# Altium schematic symbol library WR-TBL_Rising Cage Clamp.SchLib: 433 symbols (part 2 of 8)
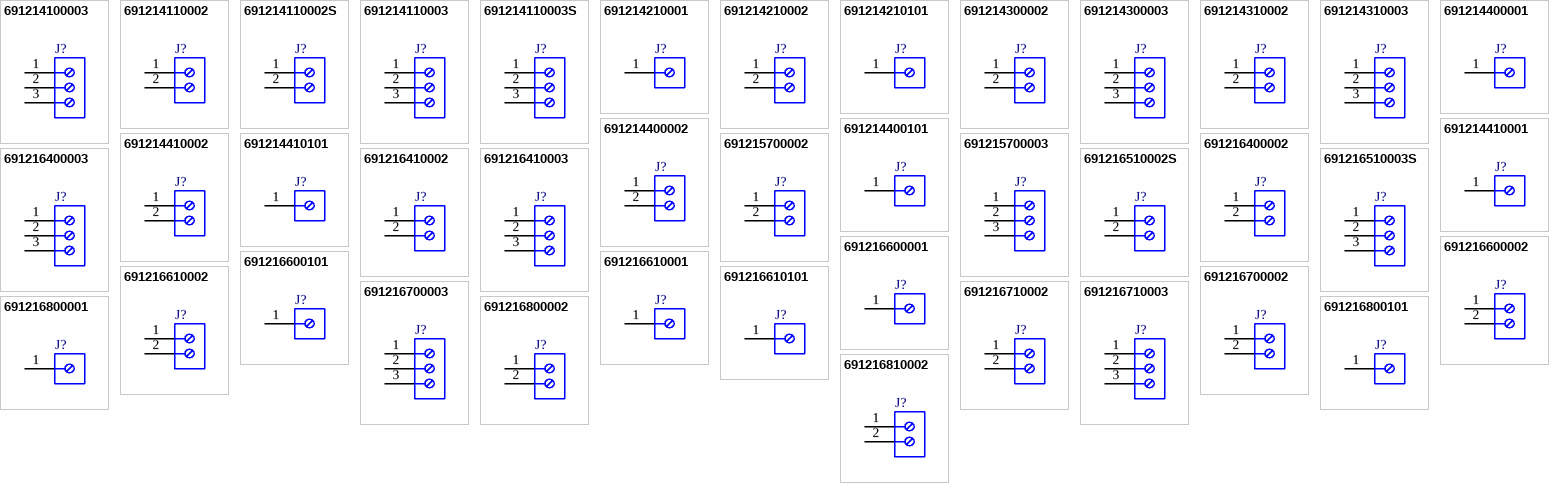
[diagram p11: symbols 691214100003 to 691216810002]

## 691216410002
designator J?  (value not drawn)
WR-TBL Series 2164 Horizontal Entry, THT, pitch 7.62mm, 02p; Manufacturer: Wurth Elektronik; Modularity: Yes; Rated Current: 14A; Wire Section: 12 to 30 (AWG) 3.31 to 0.05 (mm^2); Working Voltage: 300V (AC); Manufacturer Part Number: 691216410002; Product Series: WR-TBL; ComponentLink1Description: Website Link; ComponentLink1URL: https://www.we-online.com; ComponentLink2Description: Datasheet Link; ComponentLink2URL: https://www.we-online.com/components/products/datasheet/691216410002; Mount: Through Hole; Operating Temperature Min: -30degC; Operating Temperature Max: 120degC; Packaging: Box; Application: Rising Cage Clamp; Number of Pins: 2; Number of Rows: 1; Orientation: Horizontal; Lead Pitch: 7.62mm
footprint 691216410002
pins: 1, 2

## 691216410003
designator J?  (value not drawn)
WR-TBL Series 2164 Horizontal Entry, THT, pitch 7.62mm, 03p; Manufacturer: Wurth Elektronik; Modularity: Yes; Rated Current: 14A; Wire Section: 12 to 30 (AWG) 3.31 to 0.05 (mm^2); Working Voltage: 300V (AC); Manufacturer Part Number: 691216410003; Product Series: WR-TBL; ComponentLink1Description: Website Link; ComponentLink1URL: https://www.we-online.com; ComponentLink2Description: Datasheet Link; ComponentLink2URL: https://www.we-online.com/components/products/datasheet/691216410003; Mount: Through Hole; Operating Temperature Min: -30degC; Operating Temperature Max: 120degC; Packaging: Box; Application: Rising Cage Clamp; Number of Pins: 3; Number of Rows: 1; Orientation: Horizontal; Lead Pitch: 7.62mm
footprint 691216410003
pins: 1, 2, 3

## 691216510002S
designator J?  (value not drawn)
WR-TBL Series 2165S Horizontal Entry Modular, THT, pitch 5.08mm, 02p; Manufacturer: Wurth Elektronik; Modularity: Yes; Rated Current: 14A; Wire Section: 12 to 30 (AWG) 3.31 to 0.0509 (mm^2); Working Voltage: 300V (AC); Manufacturer Part Number: 691216510002S; Product Series: WR-TBL; ComponentLink1Description: Website Link; ComponentLink1URL: https://www.we-online.com; ComponentLink2Description: Datasheet Link; ComponentLink2URL: https://www.we-online.com/components/products/datasheet/691216510002S; Mount: Through Hole; Operating Temperature Min: -30degC; Operating Temperature Max: 120degC; Packaging: Box; Application: Rising Cage Clamp; Number of Pins: 2; Number of Rows: 1; Orientation: Horizontal; Lead Pitch: 5.08mm
footprint 691216510002S
pins: 1, 2

## 691216510003S
designator J?  (value not drawn)
WR-TBL Series 2165S Horizontal Entry Modular, THT, pitch 5.08mm, 03p; Manufacturer: Wurth Elektronik; Modularity: Yes; Rated Current: 14A; Wire Section: 12 to 30 (AWG) 3.31 to 0.0509 (mm^2); Working Voltage: 300V (AC); Manufacturer Part Number: 691216510003S; Product Series: WR-TBL; ComponentLink1Description: Website Link; ComponentLink1URL: https://www.we-online.com; ComponentLink2Description: Datasheet Link; ComponentLink2URL: https://www.we-online.com/components/products/datasheet/691216510003S; Mount: Through Hole; Operating Temperature Min: -30degC; Operating Temperature Max: 120degC; Packaging: Box; Application: Rising Cage Clamp; Number of Pins: 3; Number of Rows: 1; Orientation: Horizontal; Lead Pitch: 5.08mm
footprint 691216510003S
pins: 1, 2, 3

## 691216600001
designator J?  (value not drawn)
WR-TBL Series 2166 Vertical Entry, THT, pitch 10.16mm, 01p; Manufacturer: Wurth Elektronik; Modularity: Yes; Rated Current: 14A; Wire Section: 12 to 30 (AWG) 3.31 to 0.05 (mm^2); Working Voltage: 300V (AC); Manufacturer Part Number: 691216600001; Product Series: WR-TBL; ComponentLink1Description: Website Link; ComponentLink1URL: https://www.we-online.com; ComponentLink2Description: Datasheet Link; ComponentLink2URL: https://www.we-online.com/components/products/datasheet/691216600001; Mount: Through Hole; Operating Temperature Min: -30degC; Operating Temperature Max: 120degC; Packaging: Box; Application: Rising Cage Clamp; Number of Pins: 1; Number of Rows: 1; Orientation: Vertical; Lead Pitch: 10.16mm
footprint 691216600001
pins: 1

## 691216600002
designator J?  (value not drawn)
WR-TBL Series 2166 Vertical Entry, THT, pitch 10.16mm, 02p; Manufacturer: Wurth Elektronik; Modularity: Yes; Rated Current: 14A; Wire Section: 12 to 30 (AWG) 3.31 to 0.05 (mm^2); Working Voltage: 300V (AC); Manufacturer Part Number: 691216600002; Product Series: WR-TBL; ComponentLink1Description: Website Link; ComponentLink1URL: https://www.we-online.com; ComponentLink2Description: Datasheet Link; ComponentLink2URL: https://www.we-online.com/components/products/datasheet/691216600002; Mount: Through Hole; Operating Temperature Min: -30degC; Operating Temperature Max: 120degC; Packaging: Box; Application: Rising Cage Clamp; Number of Pins: 2; Number of Rows: 1; Orientation: Vertical; Lead Pitch: 10.16mm
footprint 691216600002
pins: 1, 2

## 691216600101
designator J?  (value not drawn)
WR-TBL Series 2166 Vertical Entry, THT, pitch 10.16mm, 01p; Manufacturer: Wurth Elektronik; Modularity: Yes; Rated Current: 14A; Wire Section: 12 to 30 (AWG) 3.31 to 0.05 (mm^2); Working Voltage: 300V (AC); Manufacturer Part Number: 691216600101; Product Series: WR-TBL; ComponentLink1Description: Website Link; ComponentLink1URL: https://www.we-online.com; ComponentLink2Description: Datasheet Link; ComponentLink2URL: https://www.we-online.com/components/products/datasheet/691216600101; Mount: Through Hole; Operating Temperature Min: -30degC; Operating Temperature Max: 120degC; Packaging: Box; Application: Rising Cage Clamp; Number of Pins: 1; Number of Rows: 1; Orientation: Vertical; Lead Pitch: 10.16mm
footprint 691216600101
pins: 1

## 691216610001
designator J?  (value not drawn)
WR-TBL Series 2166 Horizontal Entry, THT, pitch 10.16mm, 01p; Manufacturer: Wurth Elektronik; Modularity: Yes; Rated Current: 14A; Wire Section: 12 to 30 (AWG) 3.31 to 0.0509 (mm^2); Working Voltage: 300V (AC); Manufacturer Part Number: 691216610001; Product Series: WR-TBL; ComponentLink1Description: Website Link; ComponentLink1URL: https://www.we-online.com; ComponentLink2Description: Datasheet Link; ComponentLink2URL: https://www.we-online.com/components/products/datasheet/691216610001; Mount: Through Hole; Operating Temperature Min: -30degC; Operating Temperature Max: 120degC; Packaging: Box; Application: Rising Cage Clamp; Number of Pins: 1; Number of Rows: 1; Orientation: Horizontal; Lead Pitch: 10.16mm
footprint 691216610001
pins: 1

## 691216610002
designator J?  (value not drawn)
WR-TBL Series 2166 Horizontal Entry, THT, pitch 10.16mm, 02p; Manufacturer: Wurth Elektronik; Modularity: Yes; Rated Current: 14A; Wire Section: 12 to 30 (AWG) 3.31 to 0.0509 (mm^2); Working Voltage: 300V (AC); Manufacturer Part Number: 691216610002; Product Series: WR-TBL; ComponentLink1Description: Website Link; ComponentLink1URL: https://www.we-online.com; ComponentLink2Description: Datasheet Link; ComponentLink2URL: https://www.we-online.com/components/products/datasheet/691216610002; Mount: Through Hole; Operating Temperature Min: -30degC; Operating Temperature Max: 120degC; Packaging: Box; Application: Rising Cage Clamp; Number of Pins: 2; Number of Rows: 1; Orientation: Horizontal; Lead Pitch: 10.16mm
footprint 691216610002
pins: 1, 2

## 691216610101
designator J?  (value not drawn)
WR-TBL Series 2166 Horizontal Entry, THT, pitch 10.16mm, 01p; Manufacturer: Wurth Elektronik; Modularity: Yes; Rated Current: 14A; Wire Section: 12 to 30 (AWG) 3.31 to 0.0509 (mm^2); Working Voltage: 300V (AC); Manufacturer Part Number: 691216610101; Product Series: WR-TBL; ComponentLink1Description: Website Link; ComponentLink1URL: https://www.we-online.com; ComponentLink2Description: Datasheet Link; ComponentLink2URL: https://www.we-online.com/components/products/datasheet/691216610101; Mount: Through Hole; Operating Temperature Min: -30degC; Operating Temperature Max: 120degC; Packaging: Box; Application: Rising Cage Clamp; Number of Pins: 1; Number of Rows: 1; Orientation: Horizontal; Lead Pitch: 10.16mm
footprint 691216610101
pins: 1

## 691216700002
designator J?  (value not drawn)
WR-TBL Series 2167 Vertical Entry Modular, THT, pitch 5mm, 02p; Manufacturer: Wurth Elektronik; Modularity: Yes; Rated Current: 14A; Wire Section: 30 to 12 (AWG) 0.0509 to 3.31 (mm^2); Working Voltage: 300V (AC); Manufacturer Part Number: 691216700002; Product Series: WR-TBL; ComponentLink1Description: Website Link; ComponentLink1URL: https://www.we-online.com; ComponentLink2Description: Datasheet Link; ComponentLink2URL: https://www.we-online.com/components/products/datasheet/691216700002; Mount: Through Hole; Operating Temperature Min: -30degC; Operating Temperature Max: 120degC; Packaging: Box; Application: Rising Cage Clamp; Number of Pins: 2; Number of Rows: 1; Orientation: Vertical; Lead Pitch: 5mm
footprint 691216700002
pins: 1, 2

## 691216700003
designator J?  (value not drawn)
WR-TBL Series 2167 Vertical Entry Modular, THT, pitch 5mm, 03p; Manufacturer: Wurth Elektronik; Modularity: Yes; Rated Current: 14A; Wire Section: 30 to 12 (AWG) 0.0509 to 3.31 (mm^2); Working Voltage: 300V (AC); Manufacturer Part Number: 691216700003; Product Series: WR-TBL; ComponentLink1Description: Website Link; ComponentLink1URL: https://www.we-online.com; ComponentLink2Description: Datasheet Link; ComponentLink2URL: https://www.we-online.com/components/products/datasheet/691216700003; Mount: Through Hole; Operating Temperature Min: -30degC; Operating Temperature Max: 120degC; Packaging: Box; Application: Rising Cage Clamp; Number of Pins: 3; Number of Rows: 1; Orientation: Vertical; Lead Pitch: 5mm
footprint 691216700003
pins: 1, 2, 3

## 691216710002
designator J?  (value not drawn)
WR-TBL Series 2167 Horizontal Entry Modular, THT, pitch 5mm, 02p; Manufacturer: Wurth Elektronik; Modularity: Yes; Rated Current: 14A; Wire Section: 30 to 12 (AWG) 0.05 to 3.31 (mm^2); Working Voltage: 300V (AC); Manufacturer Part Number: 691216710002; Product Series: WR-TBL; ComponentLink1Description: Website Link; ComponentLink1URL: https://www.we-online.com; ComponentLink2Description: Datasheet Link; ComponentLink2URL: https://www.we-online.com/components/products/datasheet/691216710002; Mount: Through Hole; Operating Temperature Min: -30degC; Operating Temperature Max: 120degC; Packaging: Box; Application: Rising Cage Clamp; Number of Pins: 2; Number of Rows: 1; Orientation: Horizontal; Lead Pitch: 5mm
footprint 691216710002
pins: 1, 2

## 691216710003
designator J?  (value not drawn)
WR-TBL Series 2167 Horizontal Entry Modular, THT, pitch 5mm, 03p; Manufacturer: Wurth Elektronik; Modularity: Yes; Rated Current: 14A; Wire Section: 30 to 12 (AWG) 0.05 to 3.31 (mm^2); Working Voltage: 300V (AC); Manufacturer Part Number: 691216710003; Product Series: WR-TBL; ComponentLink1Description: Website Link; ComponentLink1URL: https://www.we-online.com; ComponentLink2Description: Datasheet Link; ComponentLink2URL: https://www.we-online.com/components/products/datasheet/691216710003; Mount: Through Hole; Operating Temperature Min: -30degC; Operating Temperature Max: 120degC; Packaging: Box; Application: Rising Cage Clamp; Number of Pins: 3; Number of Rows: 1; Orientation: Horizontal; Lead Pitch: 5mm
footprint 691216710003
pins: 1, 2, 3

## 691216800001
designator J?  (value not drawn)
WR-TBL Series 2168 Vertical Entry, THT, pitch 10mm, 01p; Manufacturer: Wurth Elektronik; Modularity: Yes; Rated Current: 14A; Wire Section: 12 to 30 (AWG) 3.31 to 0.0509 (mm^2); Working Voltage: 300V (AC); Manufacturer Part Number: 691216800001; Product Series: WR-TBL; ComponentLink1Description: Website Link; ComponentLink1URL: https://www.we-online.com; ComponentLink2Description: Datasheet Link; ComponentLink2URL: https://www.we-online.com/components/products/datasheet/691216800001; Mount: Through Hole; Operating Temperature Min: -30degC; Operating Temperature Max: 120degC; Packaging: Box; Application: Rising Cage Clamp; Number of Pins: 1; Number of Rows: 1; Orientation: Vertical; Lead Pitch: 10mm
footprint 691216800001
pins: 1

## 691216800002
designator J?  (value not drawn)
WR-TBL Series 2168 Vertical Entry, THT, pitch 10mm, 02p; Manufacturer: Wurth Elektronik; Modularity: Yes; Rated Current: 14A; Wire Section: 12 to 30 (AWG) 3.31 to 0.0509 (mm^2); Working Voltage: 300V (AC); Manufacturer Part Number: 691216800002; Product Series: WR-TBL; ComponentLink1Description: Website Link; ComponentLink1URL: https://www.we-online.com; ComponentLink2Description: Datasheet Link; ComponentLink2URL: https://www.we-online.com/components/products/datasheet/691216800002; Mount: Through Hole; Operating Temperature Min: -30degC; Operating Temperature Max: 120degC; Packaging: Box; Application: Rising Cage Clamp; Number of Pins: 2; Number of Rows: 1; Orientation: Vertical; Lead Pitch: 10mm
footprint 691216800002
pins: 1, 2

## 691216800101
designator J?  (value not drawn)
WR-TBL Series 2168 Vertical Entry, THT, pitch 10mm, 01p; Manufacturer: Wurth Elektronik; Modularity: Yes; Rated Current: 14A; Wire Section: 12 to 30 (AWG) 3.31 to 0.0509 (mm^2); Working Voltage: 300V (AC); Manufacturer Part Number: 691216800101; Product Series: WR-TBL; ComponentLink1Description: Website Link; ComponentLink1URL: https://www.we-online.com; ComponentLink2Description: Datasheet Link; ComponentLink2URL: https://www.we-online.com/components/products/datasheet/691216800101; Mount: Through Hole; Operating Temperature Min: -30degC; Operating Temperature Max: 120degC; Packaging: Box; Application: Rising Cage Clamp; Number of Pins: 1; Number of Rows: 1; Orientation: Vertical; Lead Pitch: 10mm
footprint 691216800101
pins: 1

## 691216810002
designator J?  (value not drawn)
WR-TBL Series 2168 Horizontal Entry Modular, THT, pitch 10mm, 02p; Manufacturer: Wurth Elektronik; Modularity: Yes; Rated Current: 14A; Wire Section: 12 to 30 (AWG) 3.31 to 0.0509 (mm^2); Working Voltage: 300V (AC); Manufacturer Part Number: 691216810002; Product Series: WR-TBL; ComponentLink1Description: Website Link; ComponentLink1URL: https://www.we-online.com; ComponentLink2Description: Datasheet Link; ComponentLink2URL: https://www.we-online.com/components/products/datasheet/691216810002; Mount: Through Hole; Operating Temperature Min: -30degC; Operating Temperature Max: 120degC; Packaging: Box; Application: Rising Cage Clamp; Number of Pins: 2; Number of Rows: 1; Orientation: Horizontal; Lead Pitch: 10mm
footprint 691216810002
pins: 1, 2

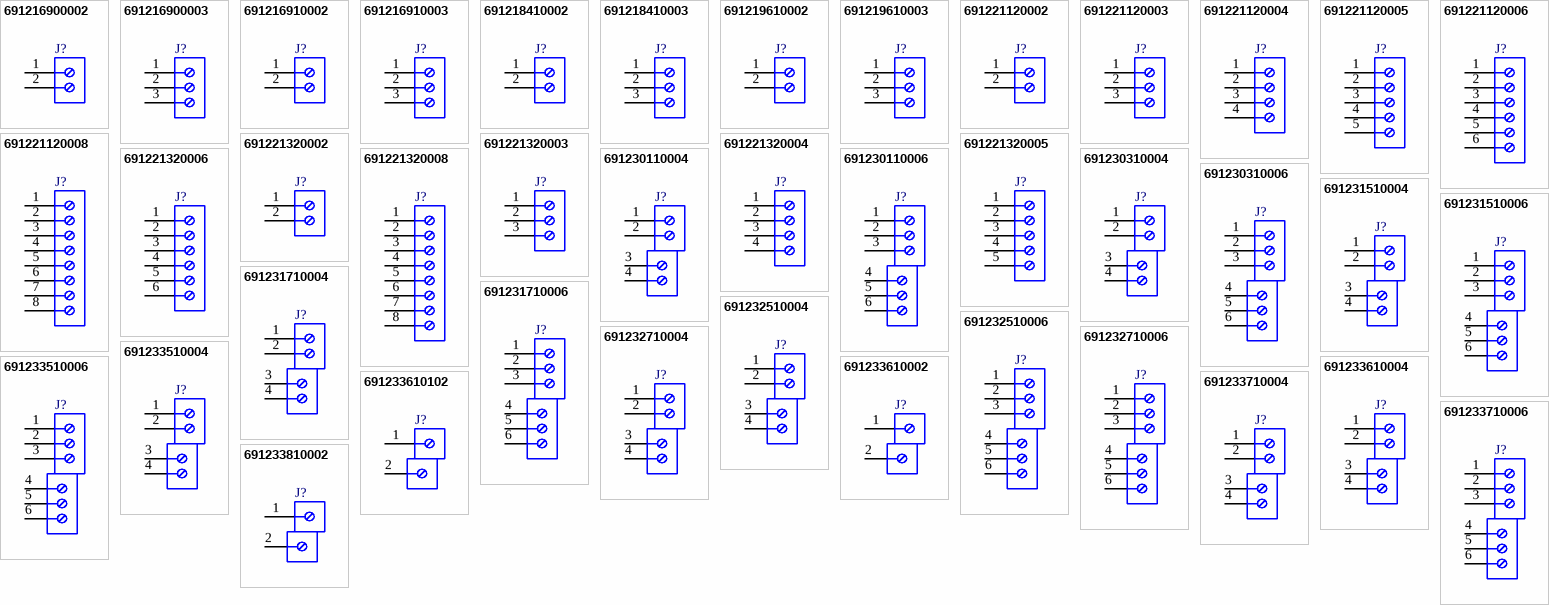
[diagram p2: symbols 691216900002 to 691233810002]

## 691216900002
designator J?  (value not drawn)
WR-TBL Series 2169 Vertical Entry, THT, pitch 7.5mm, 02p; Manufacturer: Wurth Elektronik; Modularity: Yes; Rated Current: 14A; Working Voltage: 300V (AC); Manufacturer Part Number: 691216900002; Product Series: WR-TBL; ComponentLink1Description: Website Link; ComponentLink1URL: https://www.we-online.com; ComponentLink2Description: Datasheet Link; ComponentLink2URL: https://www.we-online.com/components/products/datasheet/691216900002; Mount: Through Hole; Operating Temperature Min: -30degC; Operating Temperature Max: 120degC; Packaging: Box; Application: Rising Cage Clamp; Number of Pins: 2; Number of Rows: 1; Orientation: Vertical; Lead Pitch: 7.5mm
footprint 691216900002
pins: 1, 2

## 691216900003
designator J?  (value not drawn)
WR-TBL Series 2169 Vertical Entry, THT, pitch 7.5mm, 03p; Manufacturer: Wurth Elektronik; Modularity: Yes; Rated Current: 14A; Working Voltage: 300V (AC); Manufacturer Part Number: 691216900003; Product Series: WR-TBL; ComponentLink1Description: Website Link; ComponentLink1URL: https://www.we-online.com; ComponentLink2Description: Datasheet Link; ComponentLink2URL: https://www.we-online.com/components/products/datasheet/691216900003; Mount: Through Hole; Operating Temperature Min: -30degC; Operating Temperature Max: 120degC; Packaging: Box; Application: Rising Cage Clamp; Number of Pins: 3; Number of Rows: 1; Orientation: Vertical; Lead Pitch: 7.5mm
footprint 691216900003
pins: 1, 2, 3

## 691216910002
designator J?  (value not drawn)
WR-TBL Series 2169 Horizontal Entry Modular, THT, pitch 7.5mm, 02p; Manufacturer: Wurth Elektronik; Modularity: Yes; Rated Current: 14A; Wire Section: 12 to 30 (AWG) 3.31 to 0.0509 (mm^2); Working Voltage: 300V (AC); Manufacturer Part Number: 691216910002; Product Series: WR-TBL; ComponentLink1Description: Website Link; ComponentLink1URL: https://www.we-online.com; ComponentLink2Description: Datasheet Link; ComponentLink2URL: https://www.we-online.com/components/products/datasheet/691216910002; Mount: Through Hole; Operating Temperature Min: -30degC; Operating Temperature Max: 120degC; Packaging: Box; Application: Rising Cage Clamp; Number of Pins: 2; Number of Rows: 1; Orientation: Horizontal; Lead Pitch: 7.5mm
footprint 691216910002
pins: 1, 2

## 691216910003
designator J?  (value not drawn)
WR-TBL Series 2169 Horizontal Entry Modular, THT, pitch 7.5mm, 03p; Manufacturer: Wurth Elektronik; Modularity: Yes; Rated Current: 14A; Wire Section: 12 to 30 (AWG) 3.31 to 0.0509 (mm^2); Working Voltage: 300V (AC); Manufacturer Part Number: 691216910003; Product Series: WR-TBL; ComponentLink1Description: Website Link; ComponentLink1URL: https://www.we-online.com; ComponentLink2Description: Datasheet Link; ComponentLink2URL: https://www.we-online.com/components/products/datasheet/691216910003; Mount: Through Hole; Operating Temperature Min: -30degC; Operating Temperature Max: 120degC; Packaging: Box; Application: Rising Cage Clamp; Number of Pins: 3; Number of Rows: 1; Orientation: Horizontal; Lead Pitch: 7.5mm
footprint 691216910003
pins: 1, 2, 3

## 691218410002
designator J?  (value not drawn)
WR-TBL Series 2184 Horizontal Entry Modular, THT, pitch 7.62mm, 02p; Manufacturer: Wurth Elektronik; Modularity: Yes; Rated Current: 30A; Wire Section: 24 to 10 (AWG) 0.2 to 4 (mm^2); Working Voltage: 300V (AC); Manufacturer Part Number: 691218410002; Product Series: WR-TBL; ComponentLink1Description: Website Link; ComponentLink1URL: https://www.we-online.com; ComponentLink2Description: Datasheet Link; ComponentLink2URL: https://www.we-online.com/components/products/datasheet/691218410002; Mount: Through Hole; Operating Temperature Min: -40degC; Operating Temperature Max: 105degC; Packaging: Box; Application: Rising Cage Clamp; Number of Pins: 2; Number of Rows: 1; Orientation: Horizontal; Lead Pitch: 7.62mm
footprint 691218410002
pins: 1, 2

## 691218410003
designator J?  (value not drawn)
WR-TBL Series 2184 Horizontal Entry Modular, THT, pitch 7.62mm, 03p; Manufacturer: Wurth Elektronik; Modularity: Yes; Rated Current: 30A; Wire Section: 24 to 10 (AWG) 0.2 to 4 (mm^2); Working Voltage: 300V (AC); Manufacturer Part Number: 691218410003; Product Series: WR-TBL; ComponentLink1Description: Website Link; ComponentLink1URL: https://www.we-online.com; ComponentLink2Description: Datasheet Link; ComponentLink2URL: https://www.we-online.com/components/products/datasheet/691218410003; Mount: Through Hole; Operating Temperature Min: -40degC; Operating Temperature Max: 105degC; Packaging: Box; Application: Rising Cage Clamp; Number of Pins: 3; Number of Rows: 1; Orientation: Horizontal; Lead Pitch: 7.62mm
footprint 691218410003
pins: 1, 2, 3

## 691219610002
designator J?  (value not drawn)
WR-TBL Series 2196 Horizontal Entry Modular, THT, pitch 10.16mm, 02p; Manufacturer: Wurth Elektronik; Modularity: Yes; Rated Current: 57A; Wire Section: 8 to 22 (AWG) 8.37 to 0.326 (mm^2); Working Voltage: 300V (AC); Manufacturer Part Number: 691219610002; Product Series: WR-TBL; ComponentLink1Description: Website Link; ComponentLink1URL: https://www.we-online.com; ComponentLink2Description: Datasheet Link; ComponentLink2URL: https://www.we-online.com/components/products/datasheet/691219610002; Mount: Through Hole; Operating Temperature Min: -40degC; Operating Temperature Max: 105degC; Packaging: Box; Application: Rising Cage Clamp; Number of Pins: 2; Number of Rows: 1; Orientation: Horizontal; Lead Pitch: 10.16mm
footprint 691219610002
pins: 1, 2

## 691219610003
designator J?  (value not drawn)
WR-TBL Series 2196 Horizontal Entry Modular, THT, pitch 10.16mm, 03p; Manufacturer: Wurth Elektronik; Modularity: Yes; Rated Current: 57A; Wire Section: 8 to 22 (AWG) 8.37 to 0.326 (mm^2); Working Voltage: 300V (AC); Manufacturer Part Number: 691219610003; Product Series: WR-TBL; ComponentLink1Description: Website Link; ComponentLink1URL: https://www.we-online.com; ComponentLink2Description: Datasheet Link; ComponentLink2URL: https://www.we-online.com/components/products/datasheet/691219610003; Mount: Through Hole; Operating Temperature Min: -40degC; Operating Temperature Max: 105degC; Packaging: Box; Application: Rising Cage Clamp; Number of Pins: 3; Number of Rows: 1; Orientation: Horizontal; Lead Pitch: 10.16mm
footprint 691219610003
pins: 1, 2, 3

## 691221120002
designator J?  (value not drawn)
WR-TBL Series 2211 55° Entry Modular, THT, pitch 3.5mm, 02p; Manufacturer: Wurth Elektronik; Modularity: Yes; Rated Current: 10A; Wire Section: 24 to 16 (AWG) 0.2 to 1 (mm^2); Working Voltage: 300V (AC); Manufacturer Part Number: 691221120002; Product Series: WR-TBL; ComponentLink1Description: Website Link; ComponentLink1URL: https://www.we-online.com; ComponentLink2Description: Datasheet Link; ComponentLink2URL: https://www.we-online.com/components/products/datasheet/691221120002; Mount: Through Hole; Operating Temperature Min: -40degC; Operating Temperature Max: 105degC; Packaging: Box; Application: Rising Cage Clamp; Number of Pins: 2; Number of Rows: 1; Orientation: 55deg; Lead Pitch: 3.5mm
footprint 691221120002
pins: 1, 2

## 691221120003
designator J?  (value not drawn)
WR-TBL Series 2211 55° Entry Modular, THT, pitch 3.5mm, 03p; Manufacturer: Wurth Elektronik; Modularity: Yes; Rated Current: 10A; Wire Section: 24 to 16 (AWG) 0.2 to 1 (mm^2); Working Voltage: 300V (AC); Manufacturer Part Number: 691221120003; Product Series: WR-TBL; ComponentLink1Description: Website Link; ComponentLink1URL: https://www.we-online.com; ComponentLink2Description: Datasheet Link; ComponentLink2URL: https://www.we-online.com/components/products/datasheet/691221120003; Mount: Through Hole; Operating Temperature Min: -40degC; Operating Temperature Max: 105degC; Packaging: Box; Application: Rising Cage Clamp; Number of Pins: 3; Number of Rows: 1; Orientation: 55deg; Lead Pitch: 3.5mm
footprint 691221120003
pins: 1, 2, 3

## 691221120004
designator J?  (value not drawn)
WR-TBL Series 2211 55° Entry Modular, THT, pitch 3.5mm, 04p; Manufacturer: Wurth Elektronik; Modularity: Yes; Rated Current: 10A; Wire Section: 24 to 16 (AWG) 0.2 to 1 (mm^2); Working Voltage: 300V (AC); Manufacturer Part Number: 691221120004; Product Series: WR-TBL; ComponentLink1Description: Website Link; ComponentLink1URL: https://www.we-online.com; ComponentLink2Description: Datasheet Link; ComponentLink2URL: https://www.we-online.com/components/products/datasheet/691221120004; Mount: Through Hole; Operating Temperature Min: -40degC; Operating Temperature Max: 105degC; Packaging: Box; Application: Rising Cage Clamp; Number of Pins: 4; Number of Rows: 1; Orientation: 55deg; Lead Pitch: 3.5mm
footprint 691221120004
pins: 1, 2, 3, 4

## 691221120005
designator J?  (value not drawn)
WR-TBL Series 2211 55° Entry Modular, THT, pitch 3.5mm, 05p; Manufacturer: Wurth Elektronik; Modularity: Yes; Rated Current: 10A; Wire Section: 24 to 16 (AWG) 0.2 to 1 (mm^2); Working Voltage: 300V (AC); Manufacturer Part Number: 691221120005; Product Series: WR-TBL; ComponentLink1Description: Website Link; ComponentLink1URL: https://www.we-online.com; ComponentLink2Description: Datasheet Link; ComponentLink2URL: https://www.we-online.com/components/products/datasheet/691221120005; Mount: Through Hole; Operating Temperature Min: -40degC; Operating Temperature Max: 105degC; Packaging: Box; Application: Rising Cage Clamp; Number of Pins: 5; Number of Rows: 1; Orientation: 55deg; Lead Pitch: 3.5mm
footprint 691221120005
pins: 1, 2, 3, 4, 5

## 691221120006
designator J?  (value not drawn)
WR-TBL Series 2211 55° Entry Modular, THT, pitch 3.5mm, 06p; Manufacturer: Wurth Elektronik; Modularity: Yes; Rated Current: 10A; Wire Section: 24 to 16 (AWG) 0.2 to 1 (mm^2); Working Voltage: 300V (AC); Manufacturer Part Number: 691221120006; Product Series: WR-TBL; ComponentLink1Description: Website Link; ComponentLink1URL: https://www.we-online.com; ComponentLink2Description: Datasheet Link; ComponentLink2URL: https://www.we-online.com/components/products/datasheet/691221120006; Mount: Through Hole; Operating Temperature Min: -40degC; Operating Temperature Max: 105degC; Packaging: Box; Application: Rising Cage Clamp; Number of Pins: 6; Number of Rows: 1; Orientation: 55deg; Lead Pitch: 3.5mm
footprint 691221120006
pins: 1, 2, 3, 4, 5, 6

## 691221120008
designator J?  (value not drawn)
WR-TBL Series 2211 55° Entry Modular, THT, pitch 3.5mm, 08p; Manufacturer: Wurth Elektronik; Modularity: Yes; Rated Current: 10A; Wire Section: 24 to 16 (AWG) 0.2 to 1 (mm^2); Working Voltage: 300V (AC); Manufacturer Part Number: 691221120008; Product Series: WR-TBL; ComponentLink1Description: Website Link; ComponentLink1URL: https://www.we-online.com; ComponentLink2Description: Datasheet Link; ComponentLink2URL: https://www.we-online.com/components/products/datasheet/691221120008; Mount: Through Hole; Operating Temperature Min: -40degC; Operating Temperature Max: 105degC; Packaging: Box; Application: Rising Cage Clamp; Number of Pins: 8; Number of Rows: 1; Orientation: 55deg; Lead Pitch: 3.5mm
footprint 691221120008
pins: 1, 2, 3, 4, 5, 6, 7, 8

## 691221320002
designator J?  (value not drawn)
WR-TBL Series 2213 55° Entry Modular, THT, pitch 3.81mm, 02p; Manufacturer: Wurth Elektronik; Modularity: Yes; Rated Current: 10A; Wire Section: 28 to 16 (AWG) 0.081 to 1.31 (mm^2); Working Voltage: 300V (AC); Manufacturer Part Number: 691221320002; Product Series: WR-TBL; ComponentLink1Description: Website Link; ComponentLink1URL: https://www.we-online.com; ComponentLink2Description: Datasheet Link; ComponentLink2URL: https://www.we-online.com/components/products/datasheet/691221320002; Mount: Through Hole; Operating Temperature Min: -40degC; Operating Temperature Max: 105degC; Packaging: Box; Application: Rising Cage Clamp; Number of Pins: 2; Number of Rows: 1; Orientation: 55deg; Lead Pitch: 3.81mm
footprint 691221320002
pins: 1, 2

## 691221320003
designator J?  (value not drawn)
WR-TBL Series 2213 55° Entry Modular, THT, pitch 3.81mm, 03p; Manufacturer: Wurth Elektronik; Modularity: Yes; Rated Current: 10A; Wire Section: 28 to 16 (AWG) 0.081 to 1.31 (mm^2); Working Voltage: 300V (AC); Manufacturer Part Number: 691221320003; Product Series: WR-TBL; ComponentLink1Description: Website Link; ComponentLink1URL: https://www.we-online.com; ComponentLink2Description: Datasheet Link; ComponentLink2URL: https://www.we-online.com/components/products/datasheet/691221320003; Mount: Through Hole; Operating Temperature Min: -40degC; Operating Temperature Max: 105degC; Packaging: Box; Application: Rising Cage Clamp; Number of Pins: 3; Number of Rows: 1; Orientation: 55deg; Lead Pitch: 3.81mm
footprint 691221320003
pins: 1, 2, 3

## 691221320004
designator J?  (value not drawn)
WR-TBL Series 2213 55° Entry Modular, THT, pitch 3.81mm, 04p; Manufacturer: Wurth Elektronik; Modularity: Yes; Rated Current: 10A; Wire Section: 28 to 16 (AWG) 0.081 to 1.31 (mm^2); Working Voltage: 300V (AC); Manufacturer Part Number: 691221320004; Product Series: WR-TBL; ComponentLink1Description: Website Link; ComponentLink1URL: https://www.we-online.com; ComponentLink2Description: Datasheet Link; ComponentLink2URL: https://www.we-online.com/components/products/datasheet/691221320004; Mount: Through Hole; Operating Temperature Min: -40degC; Operating Temperature Max: 105degC; Packaging: Box; Application: Rising Cage Clamp; Number of Pins: 4; Number of Rows: 1; Orientation: 55deg; Lead Pitch: 3.81mm
footprint 691221320004
pins: 1, 2, 3, 4

## 691221320005
designator J?  (value not drawn)
WR-TBL Series 2213 55° Entry Modular, THT, pitch 3.81mm, 05p; Manufacturer: Wurth Elektronik; Modularity: Yes; Rated Current: 10A; Wire Section: 28 to 16 (AWG) 0.081 to 1.31 (mm^2); Working Voltage: 300V (AC); Manufacturer Part Number: 691221320005; Product Series: WR-TBL; ComponentLink1Description: Website Link; ComponentLink1URL: https://www.we-online.com; ComponentLink2Description: Datasheet Link; ComponentLink2URL: https://www.we-online.com/components/products/datasheet/691221320005; Mount: Through Hole; Operating Temperature Min: -40degC; Operating Temperature Max: 105degC; Packaging: Box; Application: Rising Cage Clamp; Number of Pins: 5; Number of Rows: 1; Orientation: 55deg; Lead Pitch: 3.81mm
footprint 691221320005
pins: 1, 2, 3, 4, 5

## 691221320006
designator J?  (value not drawn)
WR-TBL Series 2213 55° Entry Modular, THT, pitch 3.81mm, 06p; Manufacturer: Wurth Elektronik; Modularity: Yes; Rated Current: 10A; Wire Section: 28 to 16 (AWG) 0.081 to 1.31 (mm^2); Working Voltage: 300V (AC); Manufacturer Part Number: 691221320006; Product Series: WR-TBL; ComponentLink1Description: Website Link; ComponentLink1URL: https://www.we-online.com; ComponentLink2Description: Datasheet Link; ComponentLink2URL: https://www.we-online.com/components/products/datasheet/691221320006; Mount: Through Hole; Operating Temperature Min: -40degC; Operating Temperature Max: 105degC; Packaging: Box; Application: Rising Cage Clamp; Number of Pins: 6; Number of Rows: 1; Orientation: 55deg; Lead Pitch: 3.81mm
footprint 691221320006
pins: 1, 2, 3, 4, 5, 6

## 691221320008
designator J?  (value not drawn)
WR-TBL Series 2213 55° Entry Modular, THT, pitch 3.81mm, 08p; Manufacturer: Wurth Elektronik; Modularity: Yes; Rated Current: 10A; Wire Section: 28 to 16 (AWG) 0.081 to 1.31 (mm^2); Working Voltage: 300V (AC); Manufacturer Part Number: 691221320008; Product Series: WR-TBL; ComponentLink1Description: Website Link; ComponentLink1URL: https://www.we-online.com; ComponentLink2Description: Datasheet Link; ComponentLink2URL: https://www.we-online.com/components/products/datasheet/691221320008; Mount: Through Hole; Operating Temperature Min: -40degC; Operating Temperature Max: 105degC; Packaging: Box; Application: Rising Cage Clamp; Number of Pins: 8; Number of Rows: 1; Orientation: 55deg; Lead Pitch: 3.81mm
footprint 691221320008
pins: 1, 2, 3, 4, 5, 6, 7, 8

## 691230110004
designator J?  (value not drawn)
WR-TBL Series 2301 Double Level Horizontal Entry Modular, THT, pitch 3.5mm, 04p; Manufacturer: Wurth Elektronik; Modularity: Yes; Rated Current: 10A; Wire Section: 24 to 16 (AWG) 0.205 to 1.31 (mm^2); Working Voltage: 300V (AC); Manufacturer Part Number: 691230110004; Product Series: WR-TBL; ComponentLink1Description: Website Link; ComponentLink1URL: https://www.we-online.com; ComponentLink2Description: Datasheet Link; ComponentLink2URL: https://www.we-online.com/components/products/datasheet/691230110004; Mount: Through Hole; Operating Temperature Min: -40degC; Operating Temperature Max: 105degC; Packaging: Box; Application: Rising Cage Clamp; Number of Pins: 4; Number of Rows: 2; Orientation: Double Level Horizontal; Lead Pitch: 3.5mm
footprint 691230110004
pins: 1, 2, 3, 4

## 691230110006
designator J?  (value not drawn)
WR-TBL Series 2301 Double Level Horizontal Entry Modular, THT, pitch 3.5mm, 06p; Manufacturer: Wurth Elektronik; Modularity: Yes; Rated Current: 10A; Wire Section: 24 to 16 (AWG) 0.205 to 1.31 (mm^2); Working Voltage: 300V (AC); Manufacturer Part Number: 691230110006; Product Series: WR-TBL; ComponentLink1Description: Website Link; ComponentLink1URL: https://www.we-online.com; ComponentLink2Description: Datasheet Link; ComponentLink2URL: https://www.we-online.com/components/products/datasheet/691230110006; Mount: Through Hole; Operating Temperature Min: -40degC; Operating Temperature Max: 105degC; Packaging: Box; Application: Rising Cage Clamp; Number of Pins: 6; Number of Rows: 2; Orientation: Double Level Horizontal; Lead Pitch: 3.5mm
footprint 691230110006
pins: 1, 2, 3, 4, 5, 6

## 691230310004
designator J?  (value not drawn)
WR-TBL Series 2303 Double Level Horizontal Entry Modular, THT, pitch 3.81mm, 04p; Manufacturer: Wurth Elektronik; Modularity: Yes; Rated Current: 10A; Wire Section: 24 to 16 (AWG) 0.205 to 1.31 (mm^2); Working Voltage: 300V (AC); Manufacturer Part Number: 691230310004; Product Series: WR-TBL; ComponentLink1Description: Website Link; ComponentLink1URL: https://www.we-online.com; ComponentLink2Description: Datasheet Link; ComponentLink2URL: https://www.we-online.com/components/products/datasheet/691230310004; Mount: Through Hole; Operating Temperature Min: -40degC; Operating Temperature Max: 105degC; Packaging: Box; Application: Rising Cage Clamp; Number of Pins: 4; Number of Rows: 2; Orientation: Double Level Horizontal; Lead Pitch: 3.81mm
footprint 691230310004
pins: 1, 2, 3, 4

## 691230310006
designator J?  (value not drawn)
WR-TBL Series 2303 Double Level Horizontal Entry Modular, THT, pitch 3.81mm, 06p; Manufacturer: Wurth Elektronik; Modularity: Yes; Rated Current: 10A; Wire Section: 24 to 16 (AWG) 0.205 to 1.31 (mm^2); Working Voltage: 300V (AC); Manufacturer Part Number: 691230310006; Product Series: WR-TBL; ComponentLink1Description: Website Link; ComponentLink1URL: https://www.we-online.com; ComponentLink2Description: Datasheet Link; ComponentLink2URL: https://www.we-online.com/components/products/datasheet/691230310006; Mount: Through Hole; Operating Temperature Min: -40degC; Operating Temperature Max: 105degC; Packaging: Box; Application: Rising Cage Clamp; Number of Pins: 6; Number of Rows: 2; Orientation: Double Level Horizontal; Lead Pitch: 3.81mm
footprint 691230310006
pins: 1, 2, 3, 4, 5, 6

## 691231510004
designator J?  (value not drawn)
WR-TBL Series 2315 Double Level Horizontal Entry Modular, THT, pitch 5.08mm, 04p; Manufacturer: Wurth Elektronik; Modularity: Yes; Rated Current: 10A; Wire Section: 16 to 26 (AWG) 1.31 to 0.129 (mm^2); Working Voltage: 300V (AC); Manufacturer Part Number: 691231510004; Product Series: WR-TBL; ComponentLink1Description: Website Link; ComponentLink1URL: https://www.we-online.com; ComponentLink2Description: Datasheet Link; ComponentLink2URL: https://www.we-online.com/components/products/datasheet/691231510004; Mount: Through Hole; Operating Temperature Min: -40degC; Operating Temperature Max: 105degC; Packaging: Box; Application: Rising Cage Clamp; Number of Pins: 4; Number of Rows: 2; Orientation: Double Level Horizontal; Lead Pitch: 5.08mm
footprint 691231510004
pins: 1, 2, 3, 4

## 691231510006
designator J?  (value not drawn)
WR-TBL Series 2315 Double Level Horizontal Entry Modular, THT, pitch 5.08mm, 06p; Manufacturer: Wurth Elektronik; Modularity: Yes; Rated Current: 10A; Wire Section: 16 to 26 (AWG) 1.31 to 0.129 (mm^2); Working Voltage: 300V (AC); Manufacturer Part Number: 691231510006; Product Series: WR-TBL; ComponentLink1Description: Website Link; ComponentLink1URL: https://www.we-online.com; ComponentLink2Description: Datasheet Link; ComponentLink2URL: https://www.we-online.com/components/products/datasheet/691231510006; Mount: Through Hole; Operating Temperature Min: -40degC; Operating Temperature Max: 105degC; Packaging: Box; Application: Rising Cage Clamp; Number of Pins: 6; Number of Rows: 2; Orientation: Double Level Horizontal; Lead Pitch: 5.08mm
footprint 691231510006
pins: 1, 2, 3, 4, 5, 6

## 691231710004
designator J?  (value not drawn)
WR-TBL Series 2317 Double Level Horizontal Entry Modular, THT, pitch 5mm, 04p; Manufacturer: Wurth Elektronik; Modularity: Yes; Rated Current: 10A; Wire Section: 16 to 26 (AWG) 1.31 to 0.129 (mm^2); Working Voltage: 300V (AC); Manufacturer Part Number: 691231710004; Product Series: WR-TBL; ComponentLink1Description: Website Link; ComponentLink1URL: https://www.we-online.com; ComponentLink2Description: Datasheet Link; ComponentLink2URL: https://www.we-online.com/components/products/datasheet/691231710004; Mount: Through Hole; Operating Temperature Min: -40degC; Operating Temperature Max: 105degC; Packaging: Box; Application: Rising Cage Clamp; Number of Pins: 4; Number of Rows: 2; Orientation: Double Level Horizontal; Lead Pitch: 5mm
footprint 691231710004
pins: 1, 2, 3, 4

## 691231710006
designator J?  (value not drawn)
WR-TBL Series 2317 Double Level Horizontal Entry Modular, THT, pitch 5mm, 06p; Manufacturer: Wurth Elektronik; Modularity: Yes; Rated Current: 10A; Wire Section: 16 to 26 (AWG) 1.31 to 0.129 (mm^2); Working Voltage: 300V (AC); Manufacturer Part Number: 691231710006; Product Series: WR-TBL; ComponentLink1Description: Website Link; ComponentLink1URL: https://www.we-online.com; ComponentLink2Description: Datasheet Link; ComponentLink2URL: https://www.we-online.com/components/products/datasheet/691231710006; Mount: Through Hole; Operating Temperature Min: -40degC; Operating Temperature Max: 105degC; Packaging: Box; Application: Rising Cage Clamp; Number of Pins: 6; Number of Rows: 2; Orientation: Double Level Horizontal; Lead Pitch: 5mm
footprint 691231710006
pins: 1, 2, 3, 4, 5, 6

## 691232510004
designator J?  (value not drawn)
WR-TBL Series 2325 Double Level Horizontal Entry Modular, THT, pitch 5.08mm, 04p; Manufacturer: Wurth Elektronik; Modularity: Yes; Rated Current: 20A; Wire Section: 12 to 22 (AWG) 3.31 to 0.326 (mm^2); Working Voltage: 300V (AC); Manufacturer Part Number: 691232510004; Product Series: WR-TBL; ComponentLink1Description: Website Link; ComponentLink1URL: https://www.we-online.com; ComponentLink2Description: Datasheet Link; ComponentLink2URL: https://www.we-online.com/components/products/datasheet/691232510004; Mount: Through Hole; Operating Temperature Min: -40degC; Operating Temperature Max: 105degC; Packaging: Box; Application: Rising Cage Clamp; Number of Pins: 4; Number of Rows: 2; Orientation: Double Level Horizontal; Lead Pitch: 5.08mm
footprint 691232510004
pins: 1, 2, 3, 4

## 691232510006
designator J?  (value not drawn)
WR-TBL Series 2325 Double Level Horizontal Entry Modular, THT, pitch 5.08mm, 06p; Manufacturer: Wurth Elektronik; Modularity: Yes; Rated Current: 20A; Wire Section: 12 to 22 (AWG) 3.31 to 0.326 (mm^2); Working Voltage: 300V (AC); Manufacturer Part Number: 691232510006; Product Series: WR-TBL; ComponentLink1Description: Website Link; ComponentLink1URL: https://www.we-online.com; ComponentLink2Description: Datasheet Link; ComponentLink2URL: https://www.we-online.com/components/products/datasheet/691232510006; Mount: Through Hole; Operating Temperature Min: -40degC; Operating Temperature Max: 105degC; Packaging: Box; Application: Rising Cage Clamp; Number of Pins: 6; Number of Rows: 2; Orientation: Double Level Horizontal; Lead Pitch: 5.08mm
footprint 691232510006
pins: 1, 2, 3, 4, 5, 6

## 691232710004
designator J?  (value not drawn)
WR-TBL Series 2327 Double Level Horizontal Entry Modular, THT, pitch 5mm, 04p; Manufacturer: Wurth Elektronik; Modularity: Yes; Rated Current: 20A; Wire Section: 12 to 22 (AWG) 3.31 to 0.326 (mm^2); Working Voltage: 300V (AC); Manufacturer Part Number: 691232710004; Product Series: WR-TBL; ComponentLink1Description: Website Link; ComponentLink1URL: https://www.we-online.com; ComponentLink2Description: Datasheet Link; ComponentLink2URL: https://www.we-online.com/components/products/datasheet/691232710004; Mount: Through Hole; Operating Temperature Min: -40degC; Operating Temperature Max: 105degC; Packaging: Box; Application: Rising Cage Clamp; Number of Pins: 4; Number of Rows: 2; Orientation: Double Level Horizontal; Lead Pitch: 5mm
footprint 691232710004
pins: 1, 2, 3, 4

## 691232710006
designator J?  (value not drawn)
WR-TBL Series 2327 Double Level Horizontal Entry Modular, THT, pitch 5mm, 06p; Manufacturer: Wurth Elektronik; Modularity: Yes; Rated Current: 20A; Wire Section: 12 to 22 (AWG) 3.31 to 0.326 (mm^2); Working Voltage: 300V (AC); Manufacturer Part Number: 691232710006; Product Series: WR-TBL; ComponentLink1Description: Website Link; ComponentLink1URL: https://www.we-online.com; ComponentLink2Description: Datasheet Link; ComponentLink2URL: https://www.we-online.com/components/products/datasheet/691232710006; Mount: Through Hole; Operating Temperature Min: -40degC; Operating Temperature Max: 105degC; Packaging: Box; Application: Rising Cage Clamp; Number of Pins: 6; Number of Rows: 2; Orientation: Double Level Horizontal; Lead Pitch: 5mm
footprint 691232710006
pins: 1, 2, 3, 4, 5, 6

## 691233510004
designator J?  (value not drawn)
WR-TBL Series 2335 Double Level Horizontal Entry Modular, THT, pitch 5.08mm, 04p; Manufacturer: Wurth Elektronik; Modularity: Yes; Rated Current: 20A; Wire Section: 12 to 22 (AWG) 3.31 to 0.326 (mm^2); Working Voltage: 300V (AC); Manufacturer Part Number: 691233510004; Product Series: WR-TBL; ComponentLink1Description: Website Link; ComponentLink1URL: https://www.we-online.com; ComponentLink2Description: Datasheet Link; ComponentLink2URL: https://www.we-online.com/components/products/datasheet/691233510004; Mount: Through Hole; Operating Temperature Min: -40degC; Operating Temperature Max: 105degC; Packaging: Box; Application: Rising Cage Clamp; Number of Pins: 4; Number of Rows: 2; Orientation: Double Level Horizontal; Lead Pitch: 5.08mm
footprint 691233510004
pins: 1, 2, 3, 4

## 691233510006
designator J?  (value not drawn)
WR-TBL Series 2335 Double Level Horizontal Entry Modular, THT, pitch 5.08mm, 06p; Manufacturer: Wurth Elektronik; Modularity: Yes; Rated Current: 20A; Wire Section: 12 to 22 (AWG) 3.31 to 0.326 (mm^2); Working Voltage: 300V (AC); Manufacturer Part Number: 691233510006; Product Series: WR-TBL; ComponentLink1Description: Website Link; ComponentLink1URL: https://www.we-online.com; ComponentLink2Description: Datasheet Link; ComponentLink2URL: https://www.we-online.com/components/products/datasheet/691233510006; Mount: Through Hole; Operating Temperature Min: -40degC; Operating Temperature Max: 105degC; Packaging: Box; Application: Rising Cage Clamp; Number of Pins: 6; Number of Rows: 2; Orientation: Double Level Horizontal; Lead Pitch: 5.08mm
footprint 691233510006
pins: 1, 2, 3, 4, 5, 6

## 691233610002
designator J?  (value not drawn)
WR-TBL Series 2336 Double Level Horizontal Entry, THT, pitch 10.16mm, 02p; Manufacturer: Wurth Elektronik; Modularity: Yes; Rated Current: 20A; Wire Section: 12 to 30 (AWG) 3.31 to 0.05 (mm^2); Working Voltage: 300V (AC); Manufacturer Part Number: 691233610002; Product Series: WR-TBL; ComponentLink1Description: Website Link; ComponentLink1URL: https://www.we-online.com; ComponentLink2Description: Datasheet Link; ComponentLink2URL: https://www.we-online.com/components/products/datasheet/691233610002; Mount: Through Hole; Operating Temperature Min: -30degC; Operating Temperature Max: 120degC; Packaging: Box; Application: Rising Cage Clamp; Number of Pins: 2; Number of Rows: 2; Orientation: Double Level Horizontal; Lead Pitch: 10.16mm
footprint 691233610002
pins: 1, 2

## 691233610004
designator J?  (value not drawn)
WR-TBL Series 2336 Double Level Horizontal Entry, THT, pitch 10.16mm, 04p; Manufacturer: Wurth Elektronik; Modularity: Yes; Rated Current: 20A; Wire Section: 12 to 30 (AWG) 3.31 to 0.05 (mm^2); Working Voltage: 300V (AC); Manufacturer Part Number: 691233610004; Product Series: WR-TBL; ComponentLink1Description: Website Link; ComponentLink1URL: https://www.we-online.com; ComponentLink2Description: Datasheet Link; ComponentLink2URL: https://www.we-online.com/components/products/datasheet/691233610004; Mount: Through Hole; Operating Temperature Min: -30degC; Operating Temperature Max: 120degC; Packaging: Box; Application: Rising Cage Clamp; Number of Pins: 4; Number of Rows: 2; Orientation: Double Level Horizontal; Lead Pitch: 10.16mm
footprint 691233610004
pins: 1, 2, 3, 4

## 691233610102
designator J?  (value not drawn)
WR-TBL Series 2336 Double Level Horizontal Entry, THT, pitch 10.16mm, 02p; Manufacturer: Wurth Elektronik; Modularity: Yes; Rated Current: 20A; Wire Section: 12 to 30 (AWG) 3.31 to 0.05 (mm^2); Working Voltage: 300V (AC); Manufacturer Part Number: 691233610102; Product Series: WR-TBL; ComponentLink1Description: Website Link; ComponentLink1URL: https://www.we-online.com; ComponentLink2Description: Datasheet Link; ComponentLink2URL: https://www.we-online.com/components/products/datasheet/691233610102; Mount: Through Hole; Operating Temperature Min: -30degC; Operating Temperature Max: 120degC; Packaging: Box; Application: Rising Cage Clamp; Number of Pins: 2; Number of Rows: 2; Orientation: Double Level Horizontal; Lead Pitch: 10.16mm
footprint 691233610102
pins: 1, 2

## 691233710004
designator J?  (value not drawn)
WR-TBL Series 2337 Double Level Horizontal Entry Modular, THT, pitch 5mm, 04p; Manufacturer: Wurth Elektronik; Modularity: Yes; Rated Current: 20A; Wire Section: 12 to 22 (AWG) 3.31 to 0.326 (mm^2); Working Voltage: 300V (AC); Manufacturer Part Number: 691233710004; Product Series: WR-TBL; ComponentLink1Description: Website Link; ComponentLink1URL: https://www.we-online.com; ComponentLink2Description: Datasheet Link; ComponentLink2URL: https://www.we-online.com/components/products/datasheet/691233710004; Mount: Through Hole; Operating Temperature Min: -40degC; Operating Temperature Max: 105degC; Packaging: Box; Application: Rising Cage Clamp; Number of Pins: 4; Number of Rows: 2; Orientation: Double Level Horizontal; Lead Pitch: 5mm
footprint 691233710004
pins: 1, 2, 3, 4

## 691233710006
designator J?  (value not drawn)
WR-TBL Series 2337 Double Level Horizontal Entry Modular, THT, pitch 5mm, 06p; Manufacturer: Wurth Elektronik; Modularity: Yes; Rated Current: 20A; Wire Section: 12 to 22 (AWG) 3.31 to 0.326 (mm^2); Working Voltage: 300V (AC); Manufacturer Part Number: 691233710006; Product Series: WR-TBL; ComponentLink1Description: Website Link; ComponentLink1URL: https://www.we-online.com; ComponentLink2Description: Datasheet Link; ComponentLink2URL: https://www.we-online.com/components/products/datasheet/691233710006; Mount: Through Hole; Operating Temperature Min: -40degC; Operating Temperature Max: 105degC; Packaging: Box; Application: Rising Cage Clamp; Number of Pins: 6; Number of Rows: 2; Orientation: Double Level Horizontal; Lead Pitch: 5mm
footprint 691233710006
pins: 1, 2, 3, 4, 5, 6

## 691233810002
designator J?  (value not drawn)
WR-TBL Series 2338 Double Level Horizontal Cable Entry, THT, pitch 10mm, 02p; Manufacturer: Wurth Elektronik; Modularity: Yes; Rated Current: 16A; Wire Section: 12 to 30 (AWG) 3.31 to 0.05 (mm^2); Working Voltage: 300V (AC); Manufacturer Part Number: 691233810002; Product Series: WR-TBL; ComponentLink1Description: Website Link; ComponentLink1URL: https://www.we-online.com; ComponentLink2Description: Datasheet Link; ComponentLink2URL: https://www.we-online.com/components/products/datasheet/691233810002; Mount: Through Hole; Operating Temperature Min: -30degC; Operating Temperature Max: 120degC; Packaging: Box; Application: Rising Cage Clamp; Number of Pins: 2; Number of Rows: 2; Orientation: Double Level Horizontal; Lead Pitch: 10mm
footprint 691233810002
pins: 1, 2

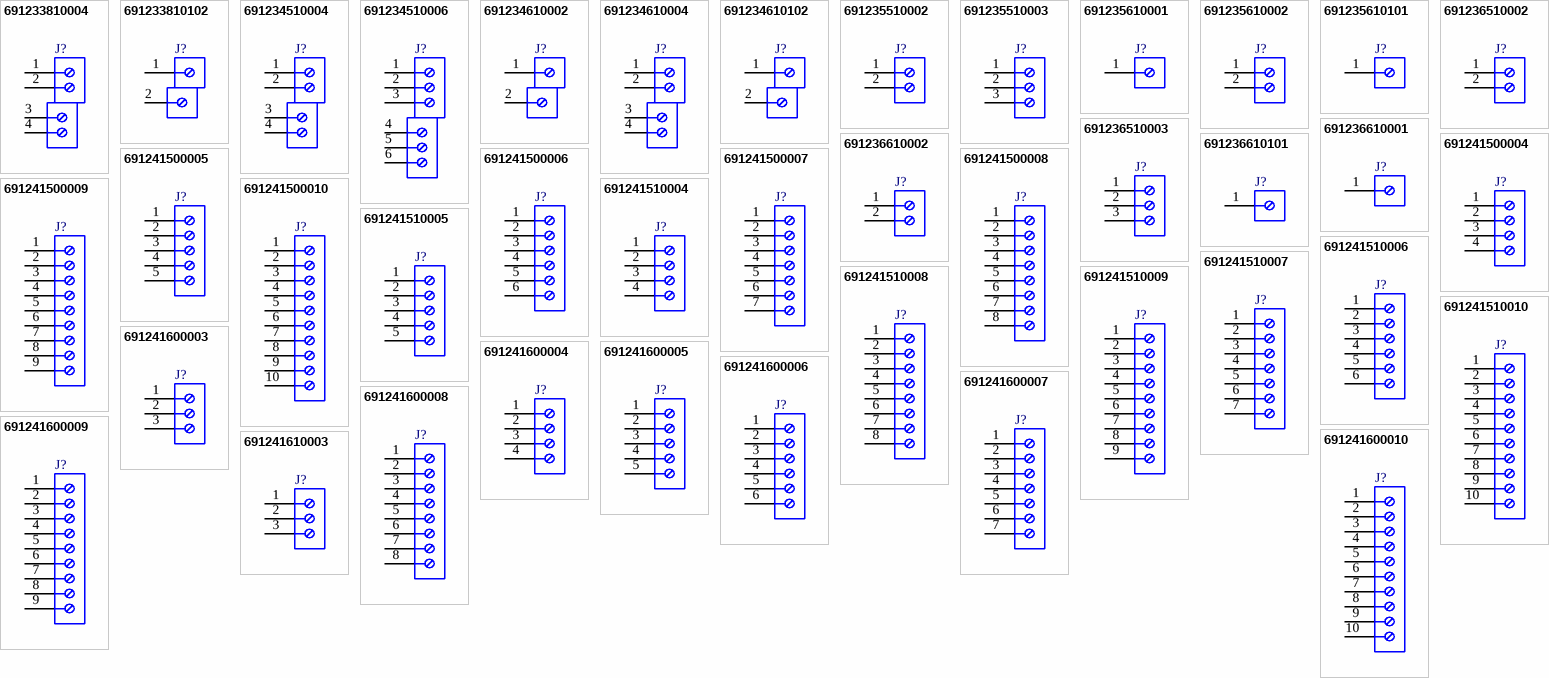
[diagram p3: symbols 691233810004 to 691241610003]

## 691233810004
designator J?  (value not drawn)
WR-TBL Series 2338 Double Level Horizontal Cable Entry, THT, pitch 10mm, 04p; Manufacturer: Wurth Elektronik; Modularity: Yes; Rated Current: 16A; Wire Section: 12 to 30 (AWG) 3.31 to 0.05 (mm^2); Working Voltage: 300V (AC); Manufacturer Part Number: 691233810004; Product Series: WR-TBL; ComponentLink1Description: Website Link; ComponentLink1URL: https://www.we-online.com; ComponentLink2Description: Datasheet Link; ComponentLink2URL: https://www.we-online.com/components/products/datasheet/691233810004; Mount: Through Hole; Operating Temperature Min: -30degC; Operating Temperature Max: 120degC; Packaging: Box; Application: Rising Cage Clamp; Number of Pins: 4; Number of Rows: 2; Orientation: Double Level Horizontal; Lead Pitch: 10mm
footprint 691233810004
pins: 1, 2, 3, 4

## 691233810102
designator J?  (value not drawn)
WR-TBL Series 2338 Double Level Horizontal Cable Entry, THT, pitch 10mm, 02p; Manufacturer: Wurth Elektronik; Modularity: Yes; Rated Current: 16A; Wire Section: 12 to 30 (AWG) 3.31 to 0.05 (mm^2); Working Voltage: 300V (AC); Manufacturer Part Number: 691233810102; Product Series: WR-TBL; ComponentLink1Description: Website Link; ComponentLink1URL: https://www.we-online.com; ComponentLink2Description: Datasheet Link; ComponentLink2URL: https://www.we-online.com/components/products/datasheet/691233810102; Mount: Through Hole; Operating Temperature Min: -30degC; Operating Temperature Max: 120degC; Packaging: Box; Application: Rising Cage Clamp; Number of Pins: 2; Number of Rows: 2; Orientation: Double Level Horizontal; Lead Pitch: 10mm
footprint 691233810102
pins: 1, 2

## 691234510004
designator J?  (value not drawn)
WR-TBL Series 2345 Double Level Horizontal Entry, THT, pitch 5.08mm, 04p; Manufacturer: Wurth Elektronik; Modularity: Yes; Rated Current: 20A; Wire Section: 12 to 30 (AWG) 3.31 to 0.05 (mm^2); Working Voltage: 300V (AC); Manufacturer Part Number: 691234510004; Product Series: WR-TBL; ComponentLink1Description: Website Link; ComponentLink1URL: https://www.we-online.com; ComponentLink2Description: Datasheet Link; ComponentLink2URL: https://www.we-online.com/components/products/datasheet/691234510004; Mount: Through Hole; Operating Temperature Min: -30degC; Operating Temperature Max: 120degC; Packaging: Box; Application: Rising Cage Clamp; Number of Pins: 4; Number of Rows: 2; Orientation: Double Level Horizontal; Lead Pitch: 5.08mm
footprint 691234510004
pins: 1, 2, 3, 4